# EAGLE library part ESP-01 (library esp8266modules)
ESP8266 Wifi Module ESP-01
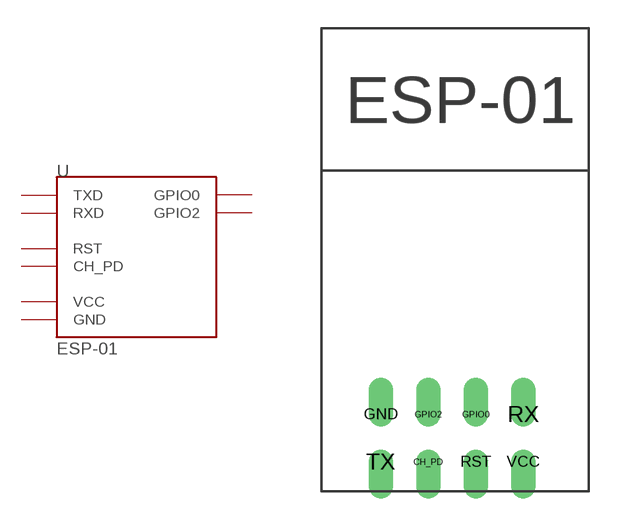
[diagram p0: symbol with the pads of ESP-01; footprint ESP-01]

Designator prefix -

## ESP-01 (DIMENSIONS: 14.3 x 24.8 mm; PINS: 8; PITCH: 0.1" / 2.54 mm)  [ESP-01]
CH_PD  CH_PD
GND  GND
GPIO0  GPIO0
GPIO2  GPIO2
RST  RST
RX  RXD
TX  TXD
VCC  VCC

## Footprint ESP-01 (pad centres in mm)
ESP8266 Module ESP-01
drill 0.8 offset: CH_PD -1.285,-8.178; GND -3.825,-5.638; GPIO0 1.255,-5.638; GPIO2 -1.285,-5.638; RST 1.255,-8.178; RX 3.795,-5.638; TX -3.825,-8.178; VCC 3.795,-8.178